# Altium footprint library PcbLib1.PcbLib: 218 footprints (part 3 of 14)
Each footprint in its own frame and in the unit in brackets; x right, y up, seen from the top. Pads: shape width x height; smd on the part's side, far side on the other; paste and mask are expansions set on the pad; w line width, h text height; cw(c..) or ccw(c..) is an arc to the next point about the centre after c.
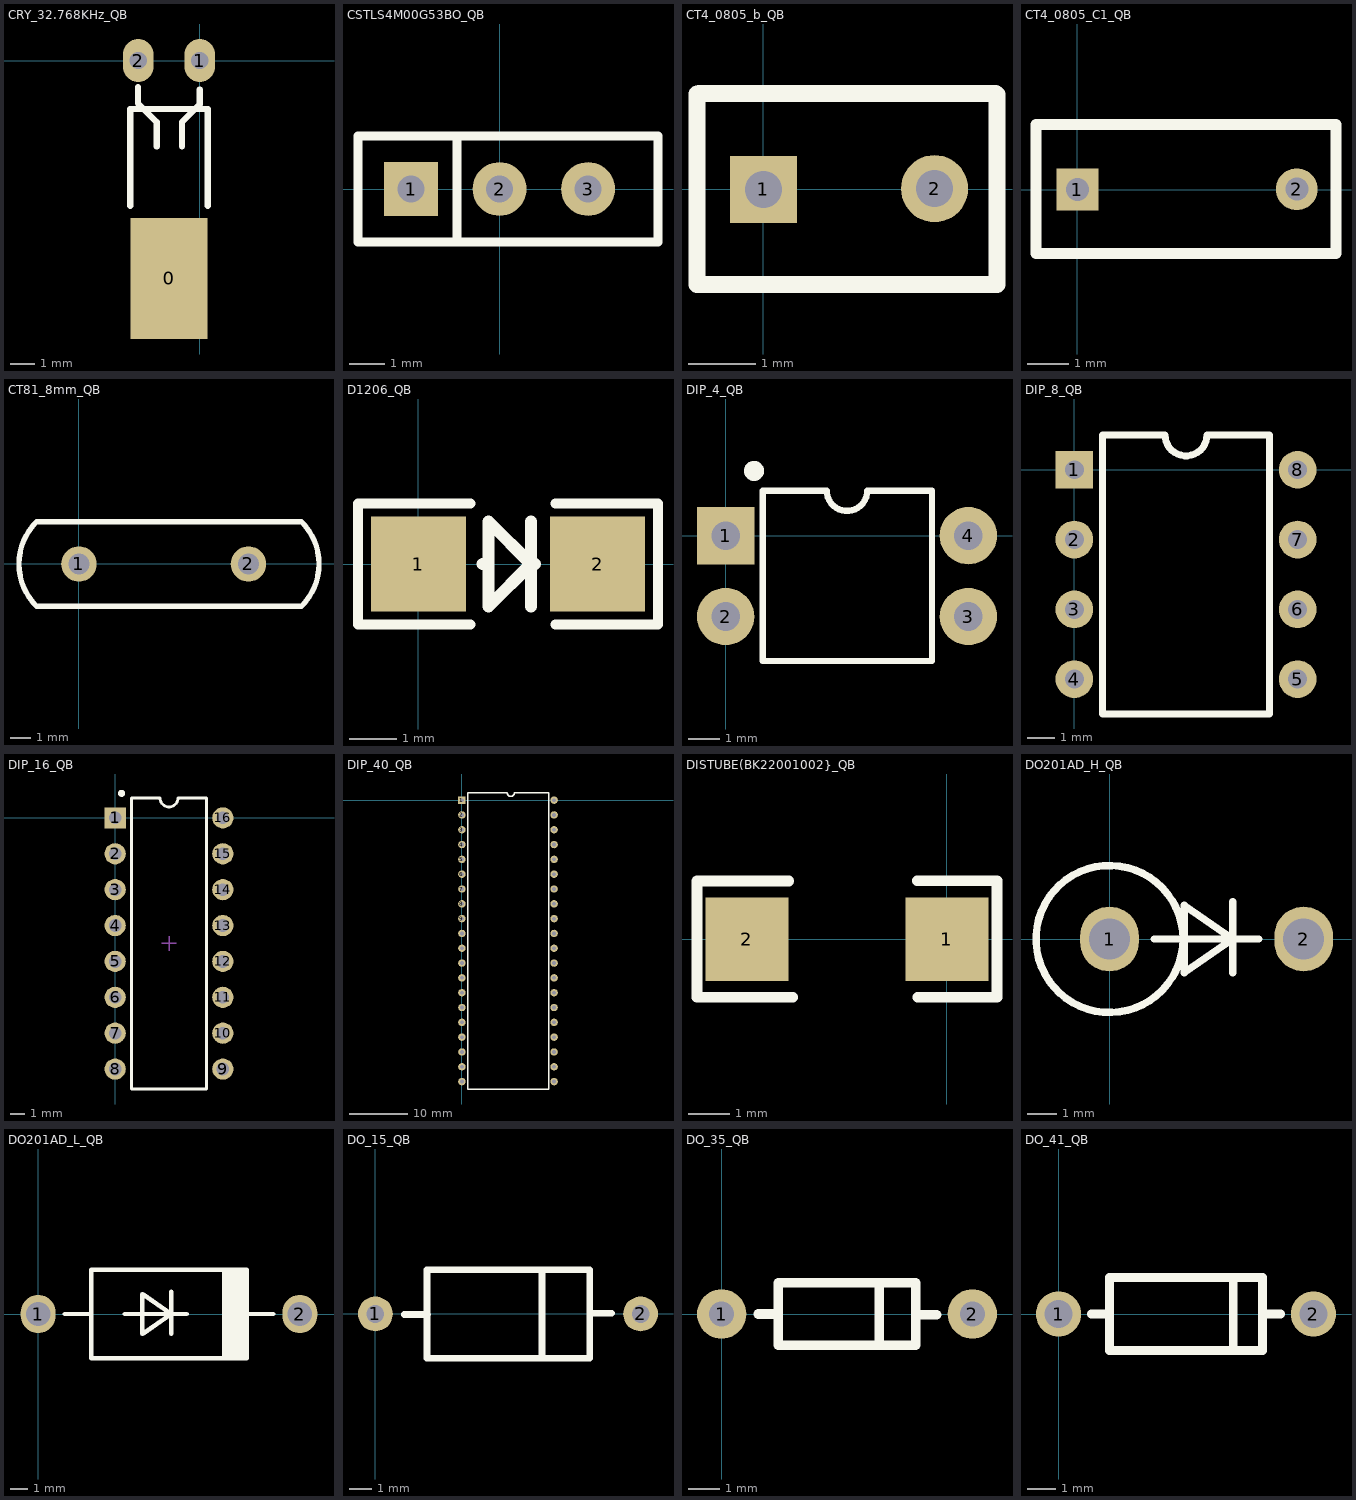
[diagram p2: the footprints below, top view; thin cyan lines are the x and y axes]

## CRY_32.768KHz_QB [mil]
pads (3):
  rect 125.98x196.85 smd: 0(-50,-354.33)
  oval 50x70 hole 28: 1(0,0) 2(-100,0)
Top Overlay:
  lines w10: -112.99,-236.22 -112.99,-78.74 12.99,-78.74 12.99,-236.22 ; -100.39,-66.93 -100.39,-43.31 ; -100,-70 -70,-100 -70,-140 ; -29,-140 -29,-100 0,-71 ; 0,-70.87 0,-47.24
3D body: height 61.02, standoff 0, extent -6.64,-6.67 5.91,5.91
3D body: height 67.27, standoff 54.72, extent -42.69,-79.48 5.31,4.33
3D body: height 67.32, standoff 54.72, extent -6.63,-6.64 5.91,5.91
3D body: height 61.02, standoff 0, extent -106.64,-6.67 -94.09,5.91
3D body: height 67.27, standoff 54.72, extent -106.68,-80.17 -58.68,3.64
3D body: height 67.32, standoff 54.72, extent -106.63,-6.64 -94.09,5.91
3D body: height 121.57, standoff 0, extent -110.74,-395 11.06,-72.17

## CSTLS4M00G53BO_QB [mil]
height 216.54
pads (3):
  rect 60x60 hole 30: 1(-98.43,0)
  round 60 hole 30: 2(0,0) 3(98.43,0)
Top Overlay:
  lines w10: -47.24,-59.06 -47.24,59.06 ; -157.48,-59.06 -157.48,59.06 176.18,59.06 176.18,-59.06 -157.48,-59.06
3D body: height 98.43, standoff 0, extent 82.81,-15.71 114.18,15.72
3D body: height 98.43, standoff 0, extent -114.04,-15.71 -82.68,15.72
3D body: height 19.68, standoff 0, extent -15.62,-15.71 15.75,15.72
3D body: height 215.76, standoff 19.68, extent -174.99,-59.04 21.47,59.07
3D body: height 215.76, standoff 19.68, extent -29.32,-59.04 167.14,59.07
3D body: height 216.54, standoff 19.68, extent -72.83,-59.05 72.84,59.06

## CT4_0805_b_QB [mm]
height 0.5
pads (2):
  rect 1x1 hole 0.55: 1(0,0)
  round 1 hole 0.55: 2(2.55,0.01)
Top Overlay:
  lines w0.254: -0.99,1.42 -0.99,-1.42 3.48,-1.42 3.48,1.41 3.46,1.43 -0.96,1.43 -0.97,1.42
3D body: height 6.6, standoff 2.6, extent -0.85,-1.29 3.33,1.29
3D body: height 3, standoff -2.6, extent -0.239,-0.25 0.259,0.249
3D body: height 3, standoff -2.6, extent 2.301,-0.239 2.799,0.26

## CT4_0805_C1_QB [mm]
height 0.5
pads (2):
  rect 1x1 hole 0.55: 1(0,0)
  round 1 hole 0.55: 2(5.251,0.01)
Top Overlay:
  lines w0.254: -0.99,-1.53 -0.99,1.56 6.19,1.56 6.19,-1.53 -0.99,-1.53
3D body: height 3, standoff -2.6, extent 5.001,-0.229 5.499,0.27
3D body: height 3, standoff -2.6, extent -0.239,-0.25 0.259,0.249
3D body: height 6.6, standoff 2.6, extent -0.933,-1.39 6.053,1.41

## CT81_8mm_QB [mm]
height 6
pads (2):
  round 1.7 hole 1: 1(0,0) 2(8.128,0)
Top Overlay:
  lines w0.254: -2.032,-2.032 cw(c0,0) -2.032,2.032 10.668,2.032 cw(c8.636,0) 10.668,-2.032 -1.016,-2.032 -2.032,-2.032
3D body: height 4.4, standoff -2.6, extent 7.732,-0.4 8.528,0.398
3D body: height 4.4, standoff -2.6, extent -0.407,-0.389 0.39,0.409
3D body: height 12.95, standoff 1, extent -1.69,-1.8 10.286,1.8

## D1206_QB [mm]
pads (2):
  rect 2x2 smd: 1(0,0) 2(3.759,0)
Top Overlay:
  lines w0.203: -1.27,-1.27 1.092,-1.27 ; -1.27,-1.219 -1.27,1.27 1.092,1.27 ; 2.87,-1.27 5.029,-1.27 5.029,1.27 2.87,1.27
  lines w0.254: 1.35,0 1.473,0 ; 2.362,-0.889 2.362,0.889 ; 2.45,0 2.362,0 ; 2.362,0 1.473,0.889 1.473,-0.889 2.362,0
3D body: height 1, standoff 0, extent 0.254,-0.686 3.454,0.686
3D body: height 1, standoff 0, extent -0.114,-0.686 0.267,0.686
3D body: height 1, standoff 0, extent 3.442,-0.686 3.823,0.686

## DIP_4_QB [mm]
height 4.5
pads (4):
  rect 1.8x1.8 hole 0.9: 1(0,0)
  round 1.8 hole 0.9: 2(0,-2.54) 3(7.62,-2.54) 4(7.62,0)
Top Overlay:
  circle w0.379: c0.891,2.032 r0.125
  lines w0.2: 1.16,-3.937 1.16,1.41 3.175,1.41 ccw(c3.81,1.41) 4.445,1.41 6.477,1.41 6.477,-3.937 1.177,-3.937
3D body: height 4.45, standoff 0.78, extent 0.2,-3.6 7.55,1
3D body: height 2.5, standoff 2.3, extent 7.42,-2.54 7.52,-2.04
3D body: height 2.5, standoff 0.8, extent 7.52,-2.54 7.72,-2.04
3D body: height 0.8, standoff 0, extent 7.52,-3.04 7.72,-2.04
3D body: height 2.5, standoff 2.3, extent 7.42,-0.5 7.52,0
3D body: height 2.5, standoff 0.8, extent 7.52,-0.5 7.72,0
3D body: height 0.8, standoff 0, extent 7.52,-0.5 7.72,0.5
3D body: height 0.8, standoff 0, extent -0.1,-3.04 0.1,-2.04
3D body: height 0.8, standoff 0, extent -0.1,-0.5 0.1,0.5
3D body: height 2.5, standoff 0.8, extent -0.1,-0.5 0.1,0
3D body: height 2.5, standoff 2.3, extent 0.1,-0.5 0.2,0
3D body: height 2.5, standoff 0.8, extent -0.1,-2.54 0.1,-2.04
3D body: height 2.5, standoff 2.3, extent 0.1,-2.54 0.2,-2.04
3D body: height 0.8, standoff 0, extent -0.1,-3.04 0.1,-2.04

## DIP_8_QB [mil]
pads (8):
  rect 54x54 hole 27: 1(0,0)
  round 54 hole 27: 2(0,-100) 3(0,-200) 4(0,-300) 5(320,-300) 6(320,-200) 7(320,-100) 8(320,0)
Top Overlay:
  lines w10: 40,-350 40,50 130,50 ccw(c160,50) 190,50 280,50 280,-350 40,-350
3D body: height 100, standoff -102.36, extent 307.05,-13 332.95,12.95
3D body: height 100, standoff -102.36, extent 307.1,-112.97 333,-87.03
3D body: height 100, standoff -102.36, extent 307.1,-212.97 333,-187.03
3D body: height 100, standoff -102.36, extent 307.1,-312.97 333,-287.03
3D body: height 100, standoff -102.36, extent -12.95,-312.97 12.95,-287.03
3D body: height 200, standoff 20, extent 40,-350 280,50
3D body: height 100, standoff -102.36, extent -12.95,-12.97 12.95,12.97
3D body: height 113, standoff 87, extent -12.92,-12.94 12.95,12.94
3D body: height 112.9, standoff 87, extent 0,-12.97 40,12.97
3D body: height 112.9, standoff 87, extent 0,-112.97 40,-87.03
3D body: height 112.9, standoff 87, extent 0,-212.97 40,-187.03
3D body: height 112.9, standoff 87, extent 0,-312.97 40,-287.03
3D body: height 100, standoff -102.36, extent -12.95,-112.97 12.95,-87.03
3D body: height 100, standoff -102.36, extent -12.95,-212.97 12.95,-187.03
3D body: height 113, standoff 87, extent -12.92,-112.94 12.95,-87.06
3D body: height 112.9, standoff 87, extent 280,-312.97 320,-287.03
3D body: height 112.9, standoff 87, extent 280,-212.95 320,-187
3D body: height 112.9, standoff 87, extent 280,-112.97 320,-87.03
3D body: height 112.9, standoff 87, extent 280,-12.97 320,12.97
3D body: height 113, standoff 87, extent -12.92,-212.94 12.95,-187.06
3D body: height 113, standoff 87, extent -12.92,-312.94 12.95,-287.06
3D body: height 113, standoff 87, extent 307.07,-313 332.93,-287.11
3D body: height 113, standoff 87, extent 307.14,-212.94 333,-187.06
3D body: height 113, standoff 87, extent 307.07,-112.89 332.93,-87
3D body: height 113, standoff 87, extent 307.14,-12.94 333,12.94

## DIP_16_QB [mm] "TLP521-4"
height 4.5
pads (16):
  rect 1.5x1.5 hole 0.9: 1(0,0)
  round 1.5 hole 0.9: 2(0,-2.54) 3(0,-5.08) 4(0,-7.62) 5(0,-10.16) 6(0,-12.7) 7(0,-15.24) 8(0,-17.78) 9(7.62,-17.78) 10(7.62,-15.24) 11(7.62,-12.7) 12(7.62,-10.16) 13(7.62,-7.62) 14(7.62,-5.08) 15(7.62,-2.54) 16(7.62,0)
Top Overlay:
  circle w0.25: c0.451,1.737 r0.125
  lines w0.2: 1.16,-19.19 1.16,1.41 3.175,1.41 ccw(c3.81,1.41) 4.445,1.41 6.46,1.41 6.46,-19.19 1.16,-19.19
Mechanical 15:
  lines w0.1: 3.31,-8.89 4.31,-8.89 ; 3.81,-9.39 3.81,-8.39
3D body: height 4.45, standoff 0.78, extent 0.2,-19.069 7.462,1.321
3D body: height 0.8, standoff 0, extent -0.101,-3.04 0.099,-2.04
3D body: height 2.5, standoff 2.3, extent 0.099,-2.54 0.199,-2.04
3D body: height 2.5, standoff 0.8, extent -0.101,-2.54 0.099,-2.04
3D body: height 2.5, standoff 2.3, extent 0.1,-0.5 0.2,0
3D body: height 2.5, standoff 0.8, extent -0.1,-0.5 0.1,0
3D body: height 0.8, standoff 0, extent -0.1,-0.5 0.1,0.5
3D body: height 0.8, standoff 0, extent -0.1,-3.04 0.1,-2.04
3D body: height 0.8, standoff 0, extent -0.101,-8.12 0.099,-7.12
3D body: height 2.5, standoff 2.3, extent 0.099,-7.62 0.199,-7.12
3D body: height 2.5, standoff 0.8, extent -0.101,-7.62 0.099,-7.12
3D body: height 2.5, standoff 2.3, extent 0.1,-5.58 0.2,-5.08
3D body: height 2.5, standoff 0.8, extent -0.1,-5.58 0.1,-5.08
3D body: height 0.8, standoff 0, extent -0.1,-5.58 0.1,-4.58
3D body: height 0.8, standoff 0, extent -0.1,-8.12 0.1,-7.12
3D body: height 0.8, standoff 0, extent -0.101,-13.2 0.099,-12.2
3D body: height 2.5, standoff 2.3, extent 0.099,-12.7 0.199,-12.2
3D body: height 2.5, standoff 0.8, extent -0.101,-12.7 0.099,-12.2
3D body: height 2.5, standoff 2.3, extent 0.1,-10.66 0.2,-10.16
3D body: height 2.5, standoff 0.8, extent -0.1,-10.66 0.1,-10.16
3D body: height 0.8, standoff 0, extent -0.1,-10.66 0.1,-9.66
3D body: height 0.8, standoff 0, extent -0.1,-13.2 0.1,-12.2
3D body: height 0.8, standoff 0, extent -0.101,-18.28 0.099,-17.28
3D body: height 2.5, standoff 2.3, extent 0.099,-17.78 0.199,-17.28
3D body: height 2.5, standoff 0.8, extent -0.101,-17.78 0.099,-17.28
3D body: height 2.5, standoff 2.3, extent 0.1,-15.74 0.2,-15.24
3D body: height 2.5, standoff 0.8, extent -0.1,-15.74 0.1,-15.24
3D body: height 0.8, standoff 0, extent -0.1,-15.74 0.1,-14.74
3D body: height 0.8, standoff 0, extent -0.1,-18.28 0.1,-17.28
3D body: height 0.8, standoff 0, extent 7.52,-0.5 7.72,0.5
3D body: height 2.5, standoff 0.8, extent 7.52,-0.5 7.72,0
3D body: height 2.5, standoff 2.3, extent 7.42,-0.5 7.52,0
3D body: height 0.8, standoff 0, extent 7.52,-3.04 7.72,-2.04
3D body: height 2.5, standoff 0.8, extent 7.52,-2.54 7.72,-2.04
3D body: height 2.5, standoff 2.3, extent 7.42,-2.54 7.52,-2.04
3D body: height 0.8, standoff 0, extent 7.52,-5.58 7.72,-4.58
3D body: height 2.5, standoff 0.8, extent 7.52,-5.58 7.72,-5.08
3D body: height 2.5, standoff 2.3, extent 7.42,-5.58 7.52,-5.08
3D body: height 0.8, standoff 0, extent 7.52,-8.12 7.72,-7.12
3D body: height 2.5, standoff 0.8, extent 7.52,-7.62 7.72,-7.12
3D body: height 2.5, standoff 2.3, extent 7.42,-7.62 7.52,-7.12
3D body: height 0.8, standoff 0, extent 7.52,-10.66 7.72,-9.66
3D body: height 2.5, standoff 0.8, extent 7.52,-10.66 7.72,-10.16
3D body: height 2.5, standoff 2.3, extent 7.42,-10.66 7.52,-10.16
3D body: height 0.8, standoff 0, extent 7.52,-13.2 7.72,-12.2
3D body: height 2.5, standoff 0.8, extent 7.52,-12.7 7.72,-12.2
3D body: height 2.5, standoff 2.3, extent 7.42,-12.7 7.52,-12.2
3D body: height 0.8, standoff 0, extent 7.52,-15.74 7.72,-14.74
3D body: height 2.5, standoff 0.8, extent 7.52,-15.74 7.72,-15.24
3D body: height 2.5, standoff 2.3, extent 7.42,-15.74 7.52,-15.24
3D body: height 0.8, standoff 0, extent 7.52,-18.28 7.72,-17.28
3D body: height 2.5, standoff 0.8, extent 7.52,-17.78 7.72,-17.28
3D body: height 2.5, standoff 2.3, extent 7.42,-17.78 7.52,-17.28

## DIP_40_QB [mm]
pads (40):
  rect 1.27x1.27 hole 0.635: 1(0,0)
  round 1.27 hole 0.635: 2(0,-2.54) 3(0,-5.08) 4(0,-7.62) 5(0,-10.16) 6(0,-12.7) 7(0,-15.24) 8(0,-17.78) 9(0,-20.32) 10(0,-22.86) 11(0,-25.4) 12(0,-27.94) 13(0,-30.48) 14(0,-33.02) 15(0,-35.56) 16(0,-38.1) 17(0,-40.64) 18(0,-43.18) 19(0,-45.72) 20(0,-48.26) 21(15.8,-48.26) 22(15.8,-45.72) 23(15.8,-43.18) 24(15.8,-40.64) 25(15.8,-38.1) 26(15.8,-35.56) 27(15.8,-33.02) 28(15.8,-30.48) 29(15.8,-27.94) 30(15.8,-25.4) 31(15.8,-22.86) 32(15.8,-20.32) 33(15.8,-17.78) 34(15.8,-15.24) 35(15.8,-12.7) 36(15.8,-10.16) 37(15.8,-7.62) 38(15.8,-5.08) 39(15.8,-2.54) 40(15.8,0)
Top Overlay:
  lines w0.254: 1.016,-49.53 1.016,1.27 7.747,1.27 ccw(c8.382,1.27) 9.017,1.27 14.859,1.27 14.859,-49.53 1.016,-49.53
3D body: height 2.25, standoff 1.75, extent -0.251,-0.253 0.254,0.253
3D body: height 2.25, standoff 1.75, extent -0.065,-25.654 1.335,-25.147
3D body: height 2.25, standoff 1.75, extent 14.413,-0.254 15.813,0.253
3D body: height 2.25, standoff 1.75, extent 14.413,-2.794 15.813,-2.287
3D body: height 2.25, standoff 1.75, extent 14.413,-5.333 15.813,-4.826
3D body: height 2.25, standoff 1.75, extent 14.413,-7.873 15.813,-7.366
3D body: height 2.25, standoff 1.75, extent 14.413,-10.413 15.813,-9.906
3D body: height 2.25, standoff 1.75, extent 14.413,-12.953 15.813,-12.446
3D body: height 2.25, standoff 1.75, extent 14.413,-15.494 15.813,-14.987
3D body: height 2.25, standoff 1.75, extent 14.413,-18.033 15.813,-17.526
3D body: height 2.25, standoff 1.75, extent 14.413,-20.573 15.813,-20.066
3D body: height 2.25, standoff 1.75, extent 14.413,-23.113 15.813,-22.606
3D body: height 2.25, standoff 1.75, extent 14.413,-25.653 15.813,-25.146
3D body: height 2.25, standoff 1.75, extent 14.413,-28.194 15.813,-27.687
3D body: height 2.25, standoff 1.75, extent 14.286,-30.733 15.686,-30.226
3D body: height 2.25, standoff 1.75, extent 14.413,-33.274 15.813,-32.767
3D body: height 2.25, standoff 1.75, extent 14.413,-35.813 15.813,-35.306
3D body: height 2.25, standoff 1.75, extent 14.413,-38.353 15.813,-37.846
3D body: height 2.25, standoff 1.75, extent 14.413,-40.893 15.813,-40.386
3D body: height 2.25, standoff 1.75, extent 14.413,-43.433 15.813,-42.926
3D body: height 2.25, standoff 1.75, extent 14.413,-45.973 15.813,-45.466
3D body: height 2.25, standoff 1.75, extent 14.413,-48.513 15.813,-48.006
3D body: height 2.25, standoff 1.75, extent -0.065,-48.514 1.335,-48.007
3D body: height 2.25, standoff 1.75, extent -0.065,-45.974 1.335,-45.467
3D body: height 2.25, standoff 1.75, extent -0.065,-43.434 1.335,-42.927
3D body: height 2.25, standoff 1.75, extent -0.065,-40.894 1.335,-40.387
3D body: height 2.25, standoff 1.75, extent -0.065,-38.354 1.335,-37.847
3D body: height 2.25, standoff 1.75, extent -0.065,-35.814 1.335,-35.307
3D body: height 2.25, standoff 1.75, extent -0.065,-33.274 1.335,-32.767
3D body: height 2.25, standoff 1.75, extent -0.065,-30.734 1.335,-30.227
3D body: height 2.25, standoff 1.75, extent -0.065,-28.194 1.335,-27.687
3D body: height 2.25, standoff 1.75, extent -0.065,-23.114 1.335,-22.607
3D body: height 2.25, standoff 1.75, extent -0.065,-20.574 1.335,-20.067
3D body: height 2.25, standoff 1.75, extent -0.065,-18.033 1.335,-17.526
3D body: height 2.25, standoff 1.75, extent -0.065,-15.493 1.335,-14.986
3D body: height 2.25, standoff 1.75, extent -0.065,-12.954 1.335,-12.447
3D body: height 2.25, standoff 1.75, extent -0.065,-10.414 1.335,-9.907
3D body: height 2.25, standoff 1.75, extent -0.065,-7.874 1.335,-7.367
3D body: height 2.25, standoff 1.75, extent -0.065,-5.334 1.335,-4.827
3D body: height 2.25, standoff 1.75, extent -0.065,-2.794 1.335,-2.287
3D body: height 2, standoff -2.6, extent 15.548,-48.513 16.054,-48.006
3D body: height 2, standoff -2.6, extent 15.548,-45.973 16.054,-45.466
3D body: height 2, standoff -2.6, extent 15.548,-43.433 16.054,-42.926
3D body: height 2, standoff -2.6, extent 15.548,-40.893 16.054,-40.386
3D body: height 2, standoff -2.6, extent 15.548,-38.353 16.054,-37.846
3D body: height 2, standoff -2.6, extent 15.548,-35.813 16.054,-35.306
3D body: height 2, standoff -2.6, extent 15.548,-33.273 16.054,-32.766
3D body: height 2, standoff -2.6, extent 15.548,-30.733 16.054,-30.226
3D body: height 2, standoff -2.6, extent 15.548,-28.193 16.054,-27.686
3D body: height 2, standoff -2.6, extent 15.548,-25.653 16.054,-25.146
3D body: height 2, standoff -2.6, extent 15.548,-23.113 16.054,-22.606
3D body: height 2, standoff -2.6, extent 15.548,-20.573 16.054,-20.066
3D body: height 2, standoff -2.6, extent 15.548,-18.033 16.054,-17.526
3D body: height 2, standoff -2.6, extent 15.548,-15.493 16.054,-14.986
3D body: height 2, standoff -2.6, extent 15.548,-12.953 16.054,-12.446
3D body: height 2, standoff -2.6, extent 15.548,-10.413 16.054,-9.906
3D body: height 2, standoff -2.6, extent 15.548,-7.873 16.054,-7.366
3D body: height 2, standoff -2.6, extent 15.548,-5.333 16.054,-4.826
3D body: height 2, standoff -2.6, extent 15.548,-2.793 16.054,-2.286
3D body: height 2, standoff -2.6, extent 15.548,-0.253 16.054,0.254
3D body: height 2, standoff -2.6, extent -0.252,-0.253 0.254,0.254
3D body: height 2, standoff -2.6, extent -0.252,-48.513 0.254,-48.006
3D body: height 2, standoff -2.6, extent -0.252,-45.973 0.254,-45.466
3D body: height 2, standoff -2.6, extent -0.252,-43.433 0.254,-42.926
3D body: height 2, standoff -2.6, extent -0.252,-40.893 0.254,-40.386
3D body: height 2, standoff -2.6, extent -0.252,-38.353 0.254,-37.846
3D body: height 2, standoff -2.6, extent -0.252,-35.813 0.254,-35.306
3D body: height 2, standoff -2.6, extent -0.252,-33.273 0.254,-32.766
3D body: height 2, standoff -2.6, extent -0.252,-30.733 0.254,-30.226
3D body: height 2, standoff -2.6, extent -0.252,-28.193 0.254,-27.686
3D body: height 2, standoff -2.6, extent -0.252,-25.653 0.254,-25.146
3D body: height 2, standoff -2.6, extent -0.252,-23.113 0.254,-22.606
3D body: height 2, standoff -2.6, extent -0.252,-20.573 0.254,-20.066
3D body: height 2, standoff -2.6, extent -0.252,-18.033 0.254,-17.526
3D body: height 2, standoff -2.6, extent -0.252,-15.493 0.254,-14.986
3D body: height 2, standoff -2.6, extent -0.252,-12.953 0.254,-12.446
3D body: height 2, standoff -2.6, extent -0.252,-10.413 0.254,-9.906
3D body: height 2, standoff -2.6, extent -0.252,-7.873 0.254,-7.366
3D body: height 2, standoff -2.6, extent -0.252,-5.333 0.254,-4.826
3D body: height 4.83, standoff 0.51, extent 0.889,-50.292 14.986,2.159
3D body: height 2, standoff -2.6, extent -0.252,-2.793 0.254,-2.286
3D body: height 2.25, standoff 1.75, extent -0.065,-0.253 1.335,0.254
3D body: height 2.25, standoff 1.75, extent -0.251,-2.793 0.254,-2.287
3D body: height 2.25, standoff 1.75, extent -0.251,-5.333 0.254,-4.827
3D body: height 2.25, standoff 1.75, extent -0.251,-7.873 0.254,-7.367
3D body: height 2.25, standoff 1.75, extent -0.251,-10.413 0.254,-9.907
3D body: height 2.25, standoff 1.75, extent -0.251,-12.953 0.254,-12.447
3D body: height 2.25, standoff 1.75, extent -0.251,-15.493 0.254,-14.987
3D body: height 2.25, standoff 1.75, extent -0.251,-18.033 0.254,-17.527
3D body: height 2.25, standoff 1.75, extent -0.251,-20.573 0.254,-20.067
3D body: height 2.25, standoff 1.75, extent -0.251,-23.113 0.254,-22.607
3D body: height 2.25, standoff 1.75, extent -0.251,-25.653 0.254,-25.147
3D body: height 2.25, standoff 1.75, extent -0.251,-28.193 0.254,-27.687
3D body: height 2.25, standoff 1.75, extent -0.251,-30.733 0.254,-30.227
3D body: height 2.25, standoff 1.75, extent -0.251,-33.273 0.254,-32.767
3D body: height 2.25, standoff 1.75, extent -0.251,-35.813 0.254,-35.307
3D body: height 2.25, standoff 1.75, extent -0.251,-38.353 0.254,-37.847
3D body: height 2.25, standoff 1.75, extent -0.251,-40.893 0.254,-40.387
3D body: height 2.25, standoff 1.75, extent -0.251,-43.433 0.254,-42.927
3D body: height 2.25, standoff 1.75, extent -0.251,-45.973 0.254,-45.467
3D body: height 2.25, standoff 1.75, extent -0.251,-48.513 0.254,-48.007
3D body: height 2.25, standoff 1.75, extent 15.549,-48.513 16.054,-48.007
3D body: height 2.25, standoff 1.75, extent 15.549,-45.973 16.054,-45.467
3D body: height 2.25, standoff 1.75, extent 15.549,-43.433 16.054,-42.927
3D body: height 2.25, standoff 1.75, extent 15.549,-40.893 16.054,-40.387
3D body: height 2.25, standoff 1.75, extent 15.549,-38.353 16.054,-37.847
3D body: height 2.25, standoff 1.75, extent 15.549,-35.813 16.054,-35.307
3D body: height 2.25, standoff 1.75, extent 15.549,-33.273 16.054,-32.767
3D body: height 2.25, standoff 1.75, extent 15.549,-30.733 16.054,-30.227
3D body: height 2.25, standoff 1.75, extent 15.549,-28.193 16.054,-27.687
3D body: height 2.25, standoff 1.75, extent 15.549,-25.653 16.054,-25.147
3D body: height 2.25, standoff 1.75, extent 15.549,-23.113 16.054,-22.607
3D body: height 2.25, standoff 1.75, extent 15.549,-20.573 16.054,-20.067
3D body: height 2.25, standoff 1.75, extent 15.549,-18.033 16.054,-17.527
3D body: height 2.25, standoff 1.75, extent 15.549,-15.493 16.054,-14.987
3D body: height 2.25, standoff 1.75, extent 15.549,-12.953 16.054,-12.447
3D body: height 2.25, standoff 1.75, extent 15.549,-10.413 16.054,-9.907
3D body: height 2.25, standoff 1.75, extent 15.549,-7.873 16.054,-7.367
3D body: height 2.25, standoff 1.75, extent 15.549,-5.333 16.054,-4.827
3D body: height 2.25, standoff 1.75, extent 15.549,-2.793 16.054,-2.287
3D body: height 2.25, standoff 1.75, extent 15.549,-0.253 16.054,0.253

## DISTUBE(BK22001002}_QB [mm]
pads (2):
  rect 2x2 smd: 1(0,0) 2(-4.8,0)
Top Overlay:
  lines w0.254: -3.8,1.397 -6,1.397 -6,-1.397 -3.7,-1.397 ; -0.718,1.407 1.2,1.407 1.2,-1.397 -0.699,-1.397
3D body: height 2.59, standoff 0, extent -5,-1.295 0,1.3

## DO201AD_H_QB [mm]
pads (2):
  oval 2x2.2 hole 1.4: 1(0,0) 2(6.604,0)
Top Overlay:
  circle w0.254: c0,0 r2.5
  lines w0.254: 1.524,0 5.08,0 ; 4.191,-1.143 4.191,1.27 ; 2.54,-1.143 4.191,0 2.54,1.143 2.54,-1.143
3D body: height 8.9, standoff 0, extent -2.579,-2.595 2.6,2.595
3D body: height 10, standoff -1, extent 6.108,-0.499 7.104,0.499
3D body: height 0, standoff -1, extent -0.496,-0.499 0.5,0.499
3D body: height 10, standoff 9, extent -0.496,-0.499 0.5,0.499
3D body: height 10, standoff 9, extent -0.2,-0.475 6.8,0.523

## DO201AD_L_QB [mm]
height 5.3
pads (2):
  oval 2x2.2 hole 1.4: 1(0,0) 2(14.986,0)
Top Overlay:
  rectangle: 10.541,-2.54 11.938,2.54
  lines w0.254: 1.524,0 3.048,0 ; 4.953,0 8.509,0 ; 7.62,-1.143 7.62,1.27 ; 11.938,0 13.462,0 ; 3.048,-2.54 11.938,-2.54 11.938,2.54 3.048,2.54 3.048,-2.54 ; 5.969,-1.143 5.969,1.143 7.62,0 5.969,-1.143
3D body: height 5.18, standoff 0, extent 3.048,-2.569 11.948,2.62
3D body: height 3.1, standoff 2.1, extent -0.452,-0.483 3.348,0.515
3D body: height 3.1, standoff 2.1, extent 11.613,-0.483 15.413,0.515
3D body: height 2.6, standoff -2.6, extent -0.496,-0.499 0.5,0.499
3D body: height 2.6, standoff -2.6, extent 14.49,-0.499 15.486,0.499

## DO_15_QB [mil]
pads (2):
  round 62 hole 31.5: 1(0,0) 2(472.44,0)
Top Overlay:
  lines w12: 51.18,-1 93,-1 ; 92,-78.74 381.89,-78.74 ; 92,-78 92,78.48 ; 92,78.74 381.89,78.74 ; 297,-78.74 297,78.74 ; 382,-79 382,78.48 ; 388,1 421.26,1
3D body: height 141.17, standoff 0, extent 86.22,-70.72 386.22,70.73
3D body: height 86.49, standoff 55.12, extent -14.18,-16 88.18,15.44
3D body: height 86.49, standoff 55.12, extent 380.82,-15 483.18,16.44
3D body: height 70.87, standoff -102.36, extent -15.61,-15.72 15.76,15.72
3D body: height 70.87, standoff -102.36, extent 456.82,-15.71 488.19,15.72

## DO_35_QB [mil]
pads (2):
  round 62 hole 31.5: 1(0,0) 2(314.96,0)
Top Overlay:
  lines w12: 46,0 71,0 ; 198,-39.37 198,39.37 ; 245,-1 270,-1 ; 71,-39.37 244,-39.37 244,39.37 71,39.37 71,-39.37
3D body: height 90.19, standoff 0, extent 64.96,-45.19 250,45.19
3D body: height 45.28, standoff 0, extent -15.62,-15.71 15.75,15.72
3D body: height 45.28, standoff -102.36, extent -15.62,-15.72 15.75,15.72
3D body: height 60.9, standoff 29.53, extent -12.77,-16 64,15.44
3D body: height 60.9, standoff 29.53, extent 249,-16 325.77,15.44
3D body: height 45.28, standoff 0, extent 298.76,-16.14 330.13,15.3
3D body: height 45.28, standoff -102.36, extent 299.35,-15.71 330.72,15.72

## DO_41_QB [mil]
pads (2):
  round 62 hole 38: 1(0,0) 2(350,0)
Top Overlay:
  lines w12: 45,0 70,0 ; 240,-50 240,50 ; 280,0 305,0 ; 70,-50 280,-50 280,50 70,50 70,-50
3D body: height 90.19, standoff 0, extent 68.7,-45.37 281.3,45
3D body: height 45.28, standoff 0, extent -15.62,-15.71 15.75,15.72
3D body: height 45.28, standoff -102.36, extent -15.62,-15.72 15.75,15.72
3D body: height 60.9, standoff 29.53, extent -9.39,-15 67.39,16.44
3D body: height 60.9, standoff 29.53, extent 278.61,-16 355.39,15.44
3D body: height 45.28, standoff 0, extent 333.8,-16.14 365.16,15.3
3D body: height 45.28, standoff -102.36, extent 334.39,-15.71 365.76,15.72